# EAGLE library part USB-C (library comma.ai)
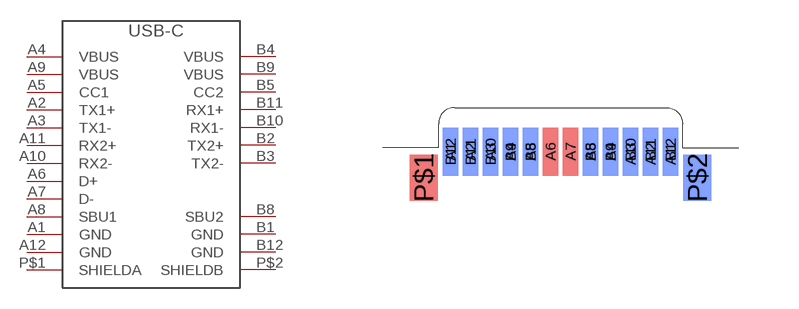
[diagram p11: symbol with the pads of USB-C; footprint USB-C]

Designator prefix -

## USB-C  [USB-C]
A1  GND
A2  TX1+
A3  TX1-
A4  VBUS
A5  CC1
A6  D+
A7  D-
A8  SBU1
A9  VBUS
A10  RX2-
A11  RX2+
A12  GND
B1  GND
B2  TX2+
B3  TX2-
B4  VBUS
B5  CC2
B8  SBU2
B9  VBUS
B10  RX1-
B11  RX1+
B12  GND
P$1  SHIELDA
P$2  SHIELDB

## Footprint USB-C (pad centres in mm)
smd 0.38 x 1.2: A1 -2.75,0; A2 -2.25,0; A3 -1.75,0; A4 -1.25,0; A5 -0.75,0; A6 -0.25,0; A7 0.25,0; A8 0.75,0; A9 1.25,0; A10 1.75,0; A11 2.25,0; A12 2.75,0
smd 0.38 x 1.2 bottom: B1 2.75,0; B2 2.25,0; B3 1.75,0; B4 1.25,0; B5 0.75,0; B8 -0.75,0; B9 -1.25,0; B10 -1.75,0; B11 -2.25,0; B12 -2.75,0
smd 0.7 x 1.15: P$1 -3.42,-0.65
smd 0.7 x 1.15 bottom: P$2 3.42,-0.65